# Altium footprint library Encoders.PcbLib: 1 footprints
Each footprint in its own frame and in the unit in brackets; x right, y up, seen from the top. Pads: shape width x height; smd on the part's side, far side on the other; paste and mask are expansions set on the pad; w line width, h text height; cw(c..) or ccw(c..) is an arc to the next point about the centre after c.
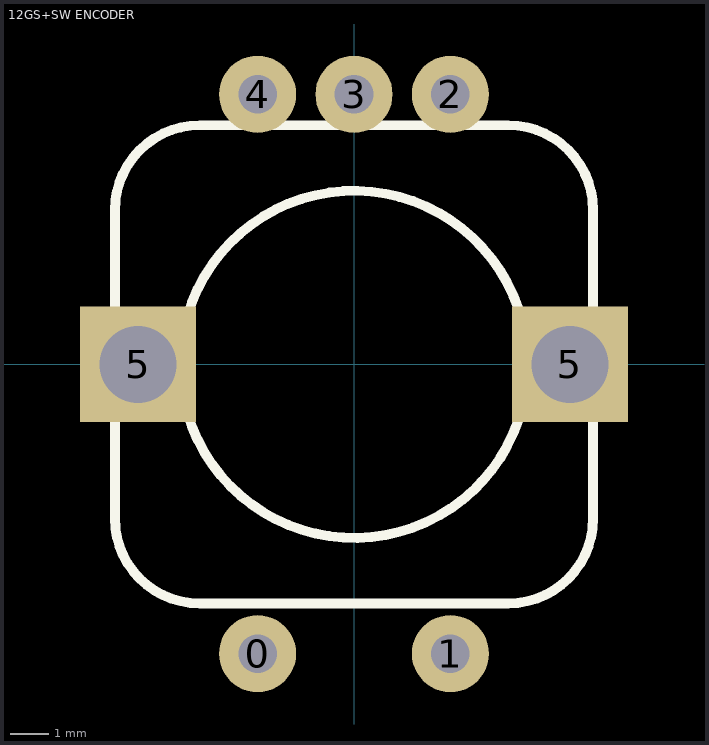
[diagram p0: the footprint, top view; thin cyan lines are the x and y axes]

## 12GS+SW ENCODER [mm] "Encoder Rotativo"
height 20
pads (7):
  round 2 hole 1: 0(-2.5,-7.5) 1(2.5,-7.5) 2(2.5,7) 3(0,7) 4(-2.5,7)
  rect 3x3 hole 2 square: 5(-5.6,0) 5(5.6,0)
Top Overlay:
  circle w0.254: c0,0 r4.5
  lines w0.254: -6.2,-4 ccw(c-4,-4) -4,-6.2 4,-6.2 ccw(c4,-4) 6.2,-4 6.2,4 ccw(c4.006,4.006) 4,6.2 -4,6.2 ccw(c-4,4) -6.2,4 -6.2,-4